# EAGLE library part NE5532D (library BaseApp)
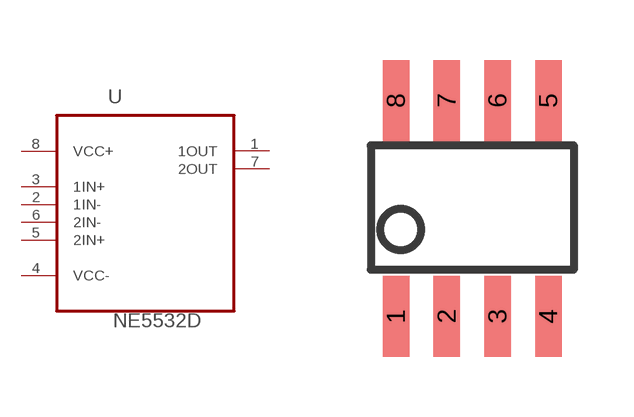
[diagram p155: symbol with the pads of SOIC-8; footprint SOIC-8]

Designator prefix -

## NE5532D (DIGIKEY: 296-13622-1-ND; PRICE_PER_UNIT: 0.88)  [SOIC-8]
1  1OUT  out
2  1IN-  in
3  1IN+  in
4  VCC-  pwr
5  2IN+  in
6  2IN-  in
7  2OUT  out
8  VCC+  pwr

## Footprint SOIC-8 (pad centres in mm)
smd 0.66 x 2.032: 1 -1.905,-2.7; 2 -0.635,-2.7; 3 0.635,-2.7; 4 1.905,-2.7; 5 1.905,2.7; 6 0.635,2.7; 7 -0.635,2.7; 8 -1.905,2.7